# EAGLE library part SI5351C-B-GM1 (library Silicon Labs)
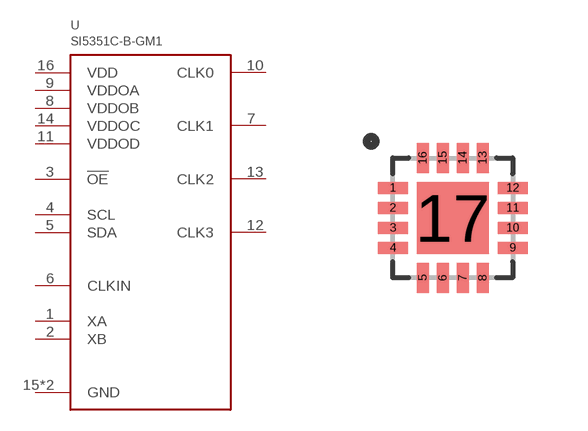
[diagram p9: symbol with the pads of QFN16; footprint QFN16]

Designator prefix U

## SI5351C-B-GM1  [QFN16]
1  XA
2  XB
3  !OE
4  SCL
5  SDA
6  CLKIN
7  CLK1
8  VDDOB
9  VDDOA
10  CLK0
11  VDDOD
12  CLK3
13  CLK2
14  VDDOC
15  GND
16  VDD
17  GND

## Footprint QFN16 (pad centres in mm)
smd 0.75 x 0.3: 1 -1.5,0.75; 2 -1.5,0.25; 3 -1.5,-0.25; 4 -1.5,-0.75; 9 1.5,-0.75; 10 1.5,-0.25; 11 1.5,0.25; 12 1.5,0.75
smd 0.3 x 0.75: 5 -0.75,-1.5; 6 -0.25,-1.5; 7 0.25,-1.5; 8 0.75,-1.5; 13 0.75,1.5; 14 0.25,1.5; 15 -0.25,1.5; 16 -0.75,1.5
smd 1.8 x 1.8: 17 0,0